# EAGLE library part LF442 (library ic)
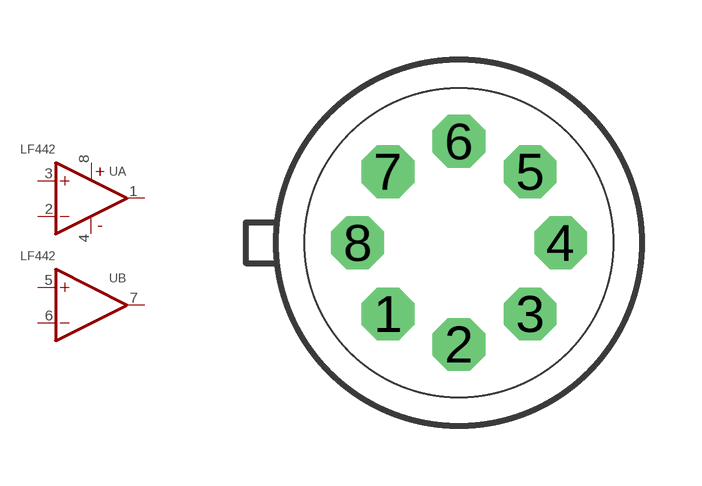
[diagram p41: symbol with the pads of TO99; footprint TO99]

Designator prefix -; gates A=OPAMP B=OPAMP PWR=PWR+-

## LF442  [TO99]
1  A:OUT  out
2  A:-IN  in
3  A:+IN  in
4  PWR:V-  pwr
5  B:+IN  in
6  B:-IN  in
7  B:OUT  out
8  PWR:V+  pwr

## Footprint TO99 (pad centres in mm)
Metal Can Package
drill 0.813 pad 1.27 octagon: 1 -1.778,-1.778; 2 0,-2.54; 3 1.778,-1.778; 4 2.54,0; 5 1.778,1.778; 6 0,2.54; 7 -1.778,1.778; 8 -2.54,0